# Altium schematic symbol library Schlib1.SchLib: 5 symbols
Pins are listed as number, name and electrical type; pins without a type are passive.

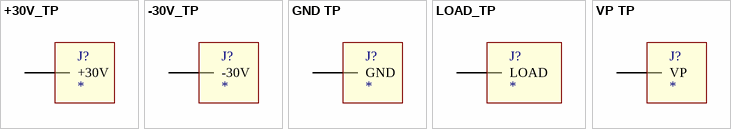
[diagram p0: symbols +30V_TP to VP TP]

## +30V_TP
designator J?
footprint +30V_TP
pins: +30V

## -30V_TP
designator J?
footprint -30V_TP
pins: -30V

## GND TP
designator J?
footprint GND_TP
pins: GND

## LOAD_TP
designator J?
footprint LOAD_TP
pins: LOAD

## VP TP
designator J?
footprint VP_TP
pins: VP